# EAGLE library part LISA-U2 (library Custom-CellPhone)
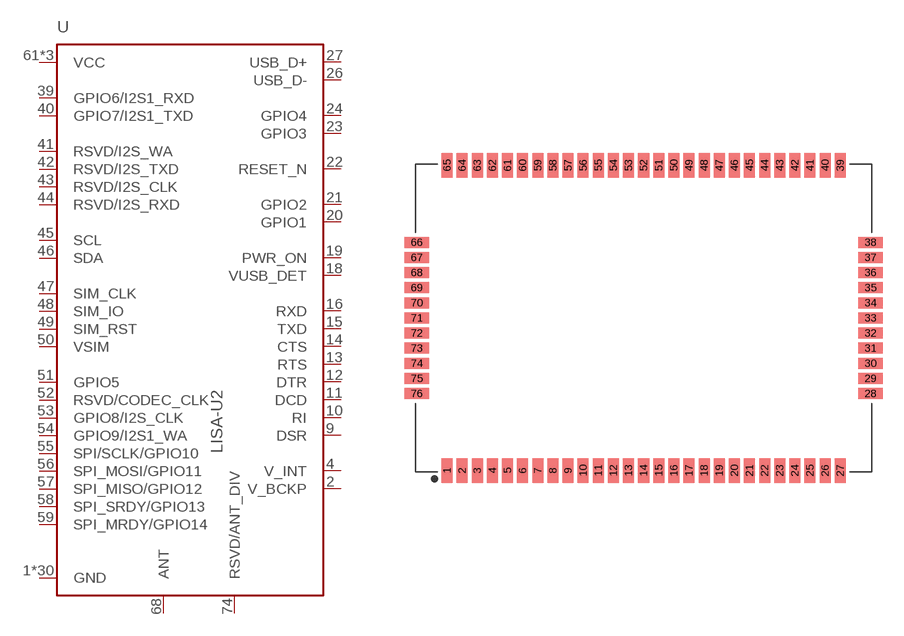
[diagram p0: symbol with the pads of LISA-U2; footprint LISA-U2]

Designator prefix -

## LISA-U2  [LISA-U2]
1  GND
2  V_BCKP
3  GND
4  V_INT
6  GND
7  GND
8  GND
9  DSR
10  RI
11  DCD
12  DTR
13  RTS
14  CTS
15  TXD
16  RXD
17  GND
18  VUSB_DET
19  PWR_ON
20  GPIO1
21  GPIO2
22  RESET_N
23  GPIO3
24  GPIO4
25  GND
26  USB_D-
27  USB_D+
28  GND
29  GND
30  GND
31  GND
32  GND
33  GND
34  GND
35  GND
36  GND
37  GND
38  GND
39  GPIO6/I2S1_RXD
40  GPIO7/I2S1_TXD
41  RSVD/I2S_WA
42  RSVD/I2S_TXD
43  RSVD/I2S_CLK
44  RSVD/I2S_RXD
45  SCL
46  SDA
47  SIM_CLK
48  SIM_IO
49  SIM_RST
50  VSIM
51  GPIO5
52  RSVD/CODEC_CLK
53  GPIO8/I2S_CLK
54  GPIO9/I2S1_WA
55  SPI/SCLK/GPIO10
56  SPI_MOSI/GPIO11
57  SPI_MISO/GPIO12
58  SPI_SRDY/GPIO13
59  SPI_MRDY/GPIO14
60  GND
61  VCC
62  VCC
63  VCC
64  GND
65  GND
66  GND
67  GND
68  ANT
69  GND
70  GND
71  GND
72  GND
73  GND
74  RSVD/ANT_DIV
75  GND
76  GND

## Footprint LISA-U2 (pad centres in mm)
smd 0.8 x 1.8: 1 2.3,0.1; 2 3.4,0.1; 3 4.5,0.1; 4 5.6,0.1; 5 6.7,0.1; 6 7.8,0.1; 7 8.9,0.1; 8 10,0.1; 9 11.1,0.1; 10 12.2,0.1; 11 13.3,0.1; 12 14.4,0.1; 13 15.5,0.1; 14 16.6,0.1; 15 17.7,0.1; 16 18.8,0.1; 17 19.9,0.1; 18 21,0.1; 19 22.1,0.1; 20 23.2,0.1; 21 24.3,0.1; 22 25.4,0.1; 23 26.5,0.1; 24 27.6,0.1; 25 28.7,0.1; 26 29.8,0.1; 27 30.9,0.1; 39 30.9,22.3; 40 29.8,22.3; 41 28.7,22.3; 42 27.6,22.3; 43 26.5,22.3; 44 25.4,22.3; 45 24.3,22.3; 46 23.2,22.3; 47 22.1,22.3; 48 21,22.3; 49 19.9,22.3; 50 18.8,22.3; 51 17.7,22.3; 52 16.6,22.3; 53 15.5,22.3; 54 14.4,22.3; 55 13.3,22.3; 56 12.2,22.3; 57 11.1,22.3; 58 10,22.3; 59 8.9,22.3; 60 7.8,22.3; 61 6.7,22.3; 62 5.6,22.3; 63 4.5,22.3; 64 3.4,22.3; 65 2.3,22.3
smd 1.8 x 0.8: 28 33.1,5.7; 29 33.1,6.8; 30 33.1,7.9; 31 33.1,9; 32 33.1,10.1; 33 33.1,11.2; 34 33.1,12.3; 35 33.1,13.4; 36 33.1,14.5; 37 33.1,15.6; 38 33.1,16.7; 66 0.1,16.7; 67 0.1,15.6; 68 0.1,14.5; 69 0.1,13.4; 70 0.1,12.3; 71 0.1,11.2; 72 0.1,10.1; 73 0.1,9; 74 0.1,7.9; 75 0.1,6.8; 76 0.1,5.7